# EAGLE library part HOLTEK_HT16K33 (library 000_nl2)
Holtek HT16K33 RAM Mapping 16*8 LED Controller Driver with keyscan Origianlly tested with the AdaFruit breakout board, the chip is described here <http://www.adafruit.com/datasheets/ht16K33v110.pdf>.
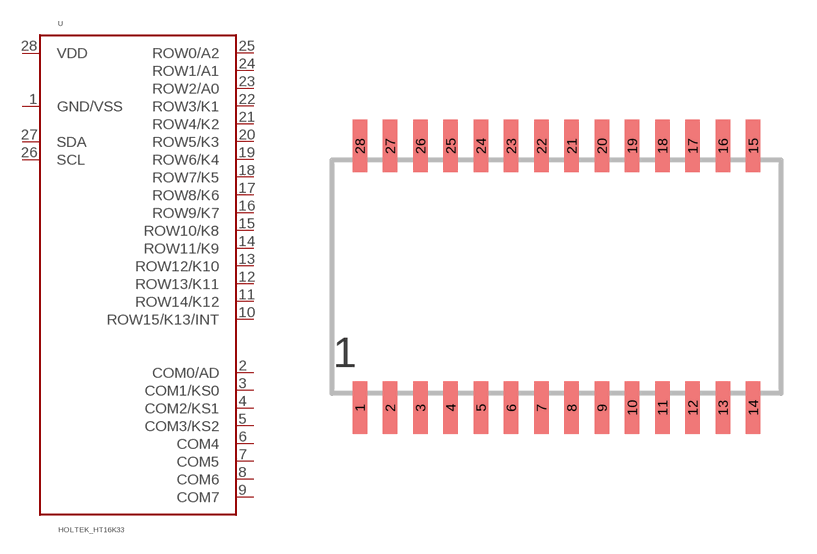
[diagram p27: symbol with the pads of SOIC28; footprint SOIC28]

Designator prefix -

## HOLTEK_HT16K33  [SOIC28]
1  GND/VSS  pwr
2  COM0/AD  in
3  COM1/KS0  in
4  COM2/KS1  in
5  COM3/KS2  in
6  COM4  in
7  COM5  in
8  COM6  in
9  COM7  in
10  ROW15/K13/INT  in
11  ROW14/K12  in
12  ROW13/K11  in
13  ROW12/K10  in
14  ROW11/K9  in
15  ROW10/K8  in
16  ROW9/K7
17  ROW8/K6  in
18  ROW7/K5
19  ROW6/K4
20  ROW5/K3
21  ROW4/K2  in
22  ROW3/K1
23  ROW2/A0
24  ROW1/A1
25  ROW0/A2
26  SCL
27  SDA
28  VDD  pwr

## Footprint SOIC28 (pad centres in mm)
smd 0.6 x 2.2: 1 -7.62,-5.5; 2 -6.35,-5.5; 3 -5.08,-5.5; 4 -3.81,-5.5; 5 -2.54,-5.5; 6 -1.27,-5.5; 7 0,-5.5; 8 1.27,-5.5; 9 2.54,-5.5; 10 3.81,-5.5; 11 5.08,-5.5; 12 6.35,-5.5; 13 7.62,-5.5; 14 8.89,-5.5; 15 8.89,5.5; 16 7.62,5.5; 17 6.35,5.5; 18 5.08,5.5; 19 3.81,5.5; 20 2.54,5.5; 21 1.27,5.5; 22 0,5.5; 23 -1.27,5.5; 24 -2.54,5.5; 25 -3.81,5.5; 26 -5.08,5.5; 27 -6.35,5.5; 28 -7.62,5.5